# EAGLE library part PINHD-2X5 (library puggleboard)
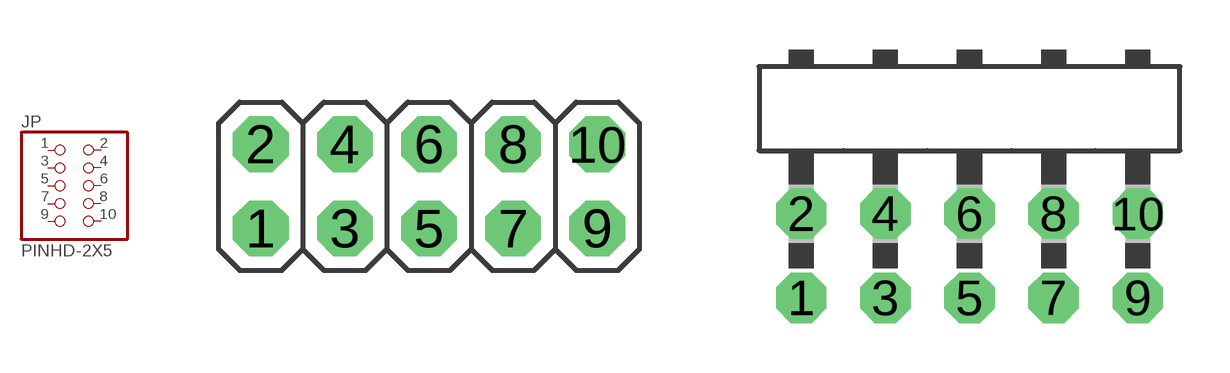
[diagram p4: symbol with the pads of 2X05; footprints 2X05, 2X05/90]

Designator prefix JP

## PINHD-2X5  [2X05]
1  1  pas
2  2  pas
3  3  pas
4  4  pas
5  5  pas
6  6  pas
7  7  pas
8  8  pas
9  9  pas
10  10  pas

## PINHD-2X5/90  [2X05/90]
Pads as for 2X05

## PINHD-2X5-IDC-SMD (DK: S9185-ND; MN: Sullins; MPN: SBH11-NBPC-D05-SM-BK)  [2X05-IDC-SMD]
P$1  1  pas
P$2  2  pas
P$3  3  pas
P$4  4  pas
P$5  5  pas
P$6  6  pas
P$7  7  pas
P$8  8  pas
P$9  9  pas
P$10  10  pas

## Footprint 2X05 (pad centres in mm)
drill 1.016 pad 1.676 octagon: 1 -5.08,-1.27; 2 -5.08,1.27; 3 -2.54,-1.27; 4 -2.54,1.27; 5 0,-1.27; 6 0,1.27; 7 2.54,-1.27; 8 2.54,1.27; 9 5.08,-1.27; 10 5.08,1.27

## Footprint 2X05/90 (pad centres in mm)
drill 1.016 octagon: 1 -5.08,-5.08; 2 -5.08,-2.54; 3 -2.54,-5.08; 4 -2.54,-2.54; 5 0,-5.08; 6 0,-2.54; 7 2.54,-5.08; 8 2.54,-2.54; 9 5.08,-5.08; 10 5.08,-2.54

## Footprint 2X05-IDC-SMD (pad centres in mm)
smd 4.153 x 0.991: P$1 -3.575,5.08; P$2 3.575,5.08; P$3 -3.575,2.54; P$4 3.575,2.54; P$5 -3.575,0; P$6 3.575,0; P$7 -3.575,-2.54; P$8 3.575,-2.54; P$9 -3.575,-5.08; P$10 3.575,-5.08